# Altium footprint library Spark.PcbLib: 35 footprints (part 1 of 3)
Each footprint in its own frame and in the unit in brackets; x right, y up, seen from the top. Pads: shape width x height; smd on the part's side, far side on the other; paste and mask are expansions set on the pad; w line width, h text height; cw(c..) or ccw(c..) is an arc to the next point about the centre after c.
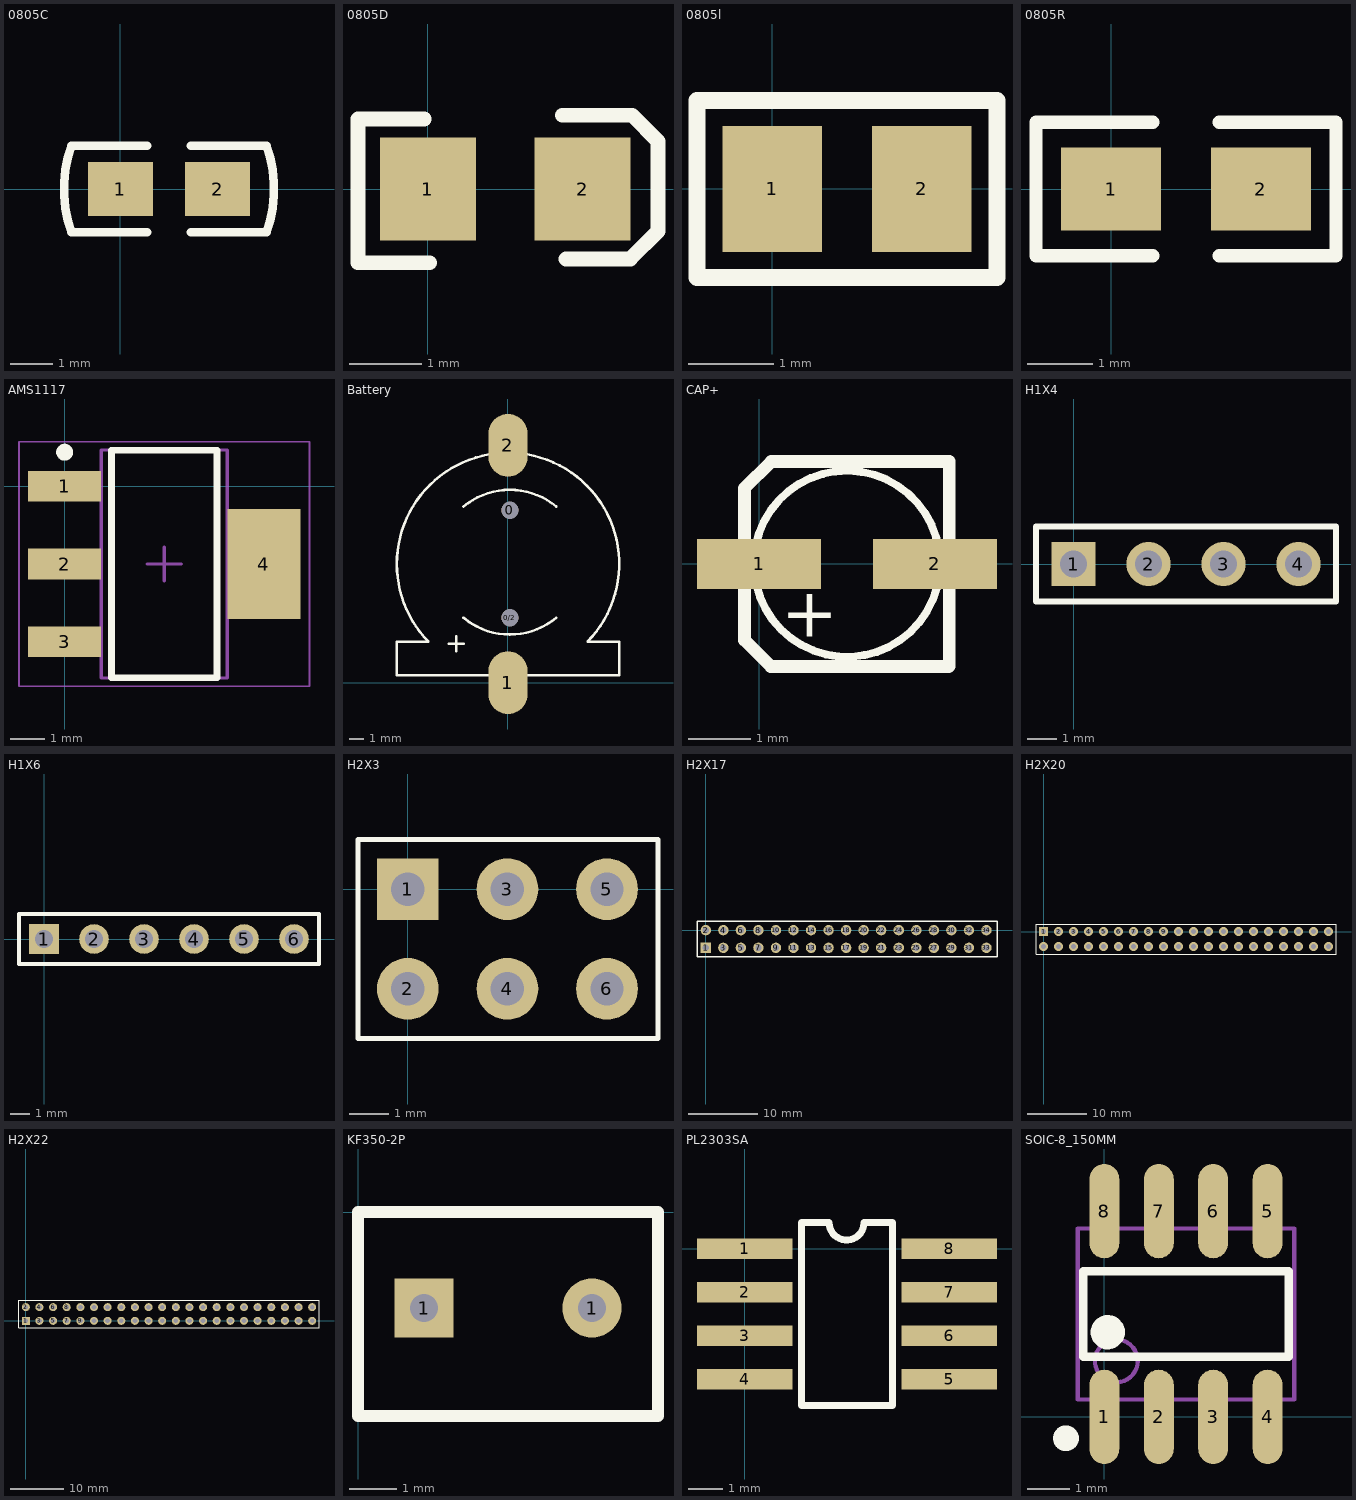
[diagram p0: the footprints below, top view; thin cyan lines are the x and y axes]

## 0805C [mil]
pads (2):
  rect 60x50 smd: 1(0,0) 2(90,0)
Top Overlay:
  lines w8: 25,-40 -45,-40 cw(c65.79,0) -45,40 25,40 ; 65,-40 135,-40 ccw(c24.21,0) 135,40 65,40

## 0805D [mil]
pads (2):
  rect 52x56 smd: 1(0,0) 2(84,0)
Top Overlay:
  lines w8: -2,38 -38,38 -38,-40 1,-40 ; 73,40 111,40 125,26 125,-23 110,-38 75,-38

## 0805l [mm]
pads (2):
  rect 1.16x1.47 smd: 1(0,0) 2(1.75,0)
Top Overlay:
  lines w0.2: -0.88,-1.035 2.63,-1.035 2.63,1.035 -0.88,1.035 -0.88,-1.035
3D body "L0805.STEP": height 0.6, standoff -0.02, extent -0.147,-0.637 1.903,0.638

## 0805R [mil]
pads (2):
  rect 60x50 smd: 1(0,0) 2(90,0)
Top Overlay:
  lines w8: 25,-40 -45,-40 -45,40 25,40 ; 65,-40 135,-40 135,40 65,40

## AMS1117 [mm]
pads (4):
  rect 2.15x0.9 smd: 1(0,0) 2(0,-2.29) 3(0,-4.58)
  rect 2.15x3.25 smd: 4(5.86,-2.29)
Top Overlay:
  circle w0.25: c0,1 r0.125
  lines w0.2: 1.38,-5.64 4.48,-5.64 4.48,1.06 1.38,1.06 1.38,-5.64
Mechanical 13:
  lines w0.1: 1.075,-5.645 4.785,-5.645 4.785,1.065 1.075,1.065 1.075,-5.645
Mechanical 15:
  lines w0.05: -1.345,-5.89 7.205,-5.89 7.205,1.31 -1.345,1.31 -1.345,-5.89
  lines w0.1: 2.43,-2.29 3.43,-2.29 ; 2.93,-2.79 2.93,-1.79
3D body: height 1.8, standoff 0.64, extent 1.075,-5.645 4.785,1.065

## Battery [mil]
pads (4):
  round 46 hole 46: 0(5,465) 0/2(5,175)
  oval 106.3x169.29 smd: 1(0,0) 2(0,640)
Top Overlay:
  lines w7: -214.71,110.48 cw(c0,320) -300,320 cw(c0,320) -32.92,618.19 ; -214.61,110.38 -300,110 -300,20 0,20 300,20 300,110 214.61,110.38 ; -160,105 -120,105 ; -140,85 -140,125 ; -119.99,174.99 ccw(c5,325) 129.72,174.77 ; -119.99,475.01 cw(c5,325) 129.99,475.01 ; 32.92,618.19 cw(c0,320) 214.71,110.48

## CAP+ [mm]
pads (2):
  rect 2x0.8 smd: 1(0,0) 2(2.835,0)
Top Overlay:
  lines w0.127: 2.777,0.636 ccw(c1.417,0.003) 2.777,0.634
  lines w0.203: 0.19,1.646 -0.234,1.222 -0.234,-1.229 0.19,-1.653 3.059,-1.653 ; 0.195,1.651 3.066,1.651 3.066,-1.647
  text "+" at 0.361,-1.174 h0.8

## H1X4 [mm]
pads (4):
  rect 1.5x1.5 hole 0.9: 1(0,0)
  round 1.5 hole 0.9: 2(2.54,0) 3(5.08,0) 4(7.62,0)
Top Overlay:
  lines w0.2: -1.27,-1.27 -1.27,1.27 8.89,1.27 8.89,-1.27 -1.27,-1.27

## H1X6 [mm]
pads (6):
  rect 1.5x1.5 hole 0.9: 1(0,0)
  round 1.5 hole 0.9: 2(2.54,0) 3(5.08,0) 4(7.62,0) 5(10.16,0) 6(12.7,0)
Top Overlay:
  lines w0.2: -1.27,-1.27 -1.27,1.27 13.97,1.27 13.97,-1.27 -1.27,-1.27
3D body "间距为2.54mm单排6pin 的排针  王晨.STEP": height 8.6, standoff -2.94, extent -1.27,-1.27 13.97,1.27

## H2X3 [mil]
pads (6):
  rect 62x62 hole 33.46: 1(0,0)
  round 62 hole 33.46: 2(0,-100) 3(100,0) 4(100,-100) 5(200,0) 6(200,-100)
Top Overlay:
  lines w5: -50,-150 251.22,-150 251.22,50 -50,50 -50,-150
3D body "HDR 1x3.STEP": height 355.91, standoff -118.11, extent -50.39,-147.24 249.61,-47.24
3D body "HDR 1x3.STEP": height 355.91, standoff -118.11, extent -50.39,-47.24 249.61,52.76

## H2X17 [mm]
pads (34):
  rect 1.5x1.5 hole 0.9: 1(0,-2.54)
  round 1.5 hole 0.9: 2(0,0) 3(2.54,-2.54) 4(2.54,0) 5(5.08,-2.54) 6(5.08,0) 7(7.62,-2.54) 8(7.62,0) 9(10.16,-2.54) 10(10.16,0) 11(12.7,-2.54) 12(12.7,0) 13(15.24,-2.54) 14(15.24,0) 15(17.78,-2.54) 16(17.78,0) 17(20.32,-2.54) 18(20.32,0) 19(22.86,-2.54) 20(22.86,0) 21(25.4,-2.54) 22(25.4,0) 23(27.94,-2.54) 24(27.94,0) 25(30.48,-2.54) 26(30.48,0) 27(33.02,-2.54) 28(33.02,0) 29(35.56,-2.54) 30(35.56,0) 31(38.1,-2.54) 32(38.1,0) 33(40.64,-2.54) 34(40.64,0)
Top Overlay:
  lines w0.2: -1.27,-3.81 42.164,-3.81 42.164,1.27 -1.27,1.27 -1.27,-3.81

## H2X20 [mm]
pads (40):
  rect 1.5x1.5 hole 0.9: 1(0,0)
  round 1.5 hole 0.9: 2(2.54,0) 3(5.08,0) 4(7.62,0) 5(10.16,0) 6(12.7,0) 7(15.24,0) 8(17.78,0) 9(20.32,0) 10(22.86,0) 11(25.4,0) 12(27.94,0) 13(30.48,0) 14(33.02,0) 15(35.56,0) 16(38.1,0) 17(40.64,0) 18(43.18,0) 19(45.72,0) 20(48.26,0) 21(48.26,-2.54) 22(45.72,-2.54) 23(43.18,-2.54) 24(40.64,-2.54) 25(38.1,-2.54) 26(35.56,-2.54) 27(33.02,-2.54) 28(30.48,-2.54) 29(27.94,-2.54) 30(25.4,-2.54) 31(22.86,-2.54) 32(20.32,-2.54) 33(17.78,-2.54) 34(15.24,-2.54) 35(12.7,-2.54) 36(10.16,-2.54) 37(7.62,-2.54) 38(5.08,-2.54) 39(2.54,-2.54) 40(0,-2.54)
Top Overlay:
  lines w0.2: -1.27,-3.81 -1.27,1.27 49.53,1.27 49.53,-3.81 -1.27,-3.81

## H2X22 [mm]
pads (44):
  rect 1.5x1.5 hole 0.9: 1(0,0)
  round 1.5 hole 0.9: 2(0,2.54) 3(2.54,0) 4(2.54,2.54) 5(5.08,0) 6(5.08,2.54) 7(7.62,0) 8(7.62,2.54) 9(10.16,0) 10(10.16,2.54) 11(12.7,0) 12(12.7,2.54) 13(15.24,0) 14(15.24,2.54) 15(17.78,0) 16(17.78,2.54) 17(20.32,0) 18(20.32,2.54) 19(22.86,0) 20(22.86,2.54) 21(25.4,0) 22(25.4,2.54) 23(27.94,0) 24(27.94,2.54) 25(30.48,0) 26(30.48,2.54) 27(33.02,0) 28(33.02,2.54) 29(35.56,0) 30(35.56,2.54) 31(38.1,0) 32(38.1,2.54) 33(40.64,0) 34(40.64,2.54) 35(43.18,0) 36(43.18,2.54) 37(45.72,0) 38(45.72,2.54) 39(48.26,0) 40(48.26,2.54) 41(50.8,0) 42(50.8,2.54) 43(53.34,0) 44(53.34,2.54)
Top Overlay:
  lines w0.2: -1.27,-1.27 54.61,-1.27 54.61,3.81 -1.27,3.81 -1.27,-1.27

## KF350-2P [mm] "Connect"
pads (2):
  rect 1.25x1.25 hole 0.6: 1(1.397,-2.032)
  round 1.25 hole 0.6: 1(4.953,-2.032)
Top Overlay:
  lines w0.254: 0,-4.318 0,0 6.35,0 6.35,-4.318 0,-4.318

## PL2303SA [mil]
pads (8):
  rect 110x24 smd: 1(0,0) 2(0,-50) 3(0,-100) 4(0,-150) 5(235,-150) 6(235,-100) 7(235,-50) 8(235,0)
Top Overlay:
  lines w8: 65,-180 170,-180 170,30 137,30 cw(c117,30) 97,30 65,30 65,-180

## SOIC-8_150MM [mm]
pads (8):
  oval 0.7x2.2 smd: 1(0,0) 2(1.27,0) 3(2.54,0) 4(3.81,0) 5(3.81,4.8) 6(2.54,4.8) 7(1.27,4.8) 8(0,4.8)
Top Overlay:
  circle w0.4: c0.08,1.975 r0.2
  circle w0.3: c-0.895,-0.5 r0.15
  lines w0.2: -0.495,1.4 -0.495,3.4 4.305,3.4 4.305,1.4 -0.495,1.4
Mechanical 13:
  circle w0.1: c0.28,1.305 r0.5
  lines w0.1: -0.62,0.405 -0.62,4.395 4.43,4.395 4.43,0.405 -0.62,0.405